# EAGLE library part LEPTON (library sjg-flir)
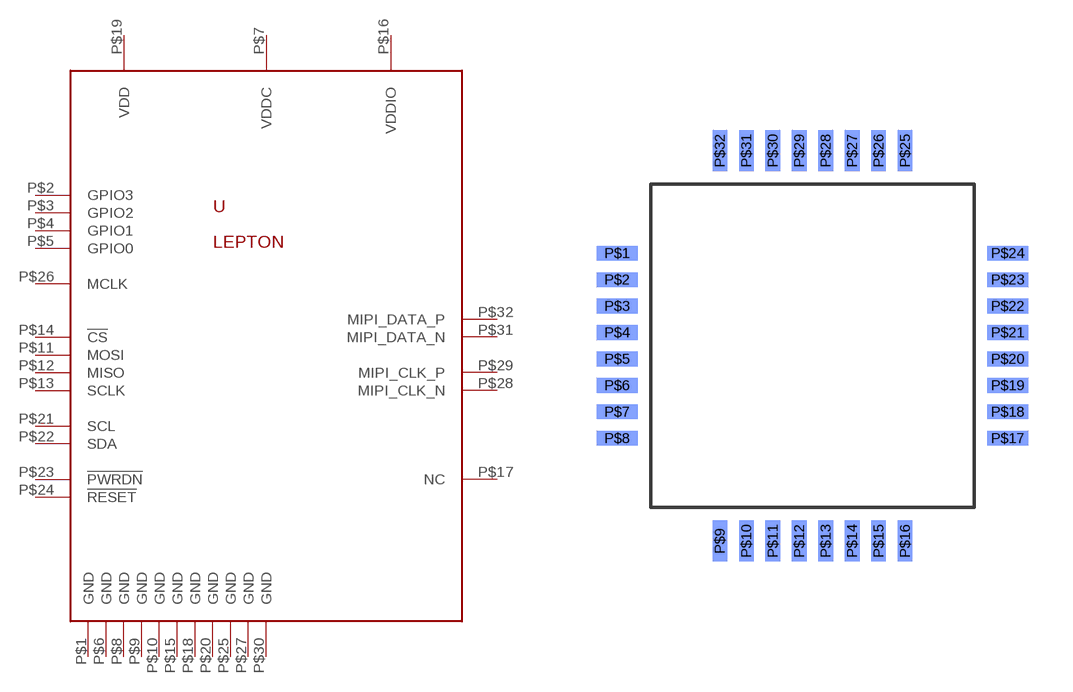
[diagram p0: symbol with the pads of 105028-2011; footprint 105028-2011]

Designator prefix -

## LEPTON  [105028-2011]
P$1  GND
P$2  GPIO3
P$3  GPIO2
P$4  GPIO1
P$5  GPIO0
P$6  GND
P$7  VDDC
P$8  GND
P$9  GND
P$10  GND
P$11  MOSI
P$12  MISO
P$13  SCLK
P$14  !CS!
P$15  GND
P$16  VDDIO
P$17  NC
P$18  GND
P$19  VDD
P$20  GND
P$21  SCL
P$22  SDA
P$23  !PWRDN!
P$24  !RESET!
P$25  GND
P$26  MCLK
P$27  GND
P$28  MIPI_CLK_N
P$29  MIPI_CLK_P
P$30  GND
P$31  MIPI_DATA_N
P$32  MIPI_DATA_P

## Footprint 105028-2011 (pad centres in mm)
Lepton 2 or Lepton 3 camera module socket Molex part # 105028-2011
smd 1.4 x 0.5 bottom: P$1 -6.644,3.15; P$2 -6.644,2.25; P$3 -6.644,1.35; P$4 -6.644,0.45; P$5 -6.644,-0.45; P$6 -6.644,-1.35; P$7 -6.644,-2.25; P$8 -6.644,-3.15; P$17 6.644,-3.15; P$18 6.644,-2.25; P$19 6.644,-1.35; P$20 6.644,-0.45; P$21 6.644,0.45; P$22 6.644,1.35; P$23 6.644,2.25; P$24 6.644,3.15
smd 0.5 x 1.4 bottom: P$9 -3.15,-6.644; P$10 -2.25,-6.644; P$11 -1.35,-6.644; P$12 -0.45,-6.644; P$13 0.45,-6.644; P$14 1.35,-6.644; P$15 2.25,-6.644; P$16 3.15,-6.644; P$25 3.15,6.644; P$26 2.25,6.644; P$27 1.35,6.644; P$28 0.45,6.644; P$29 -0.45,6.644; P$30 -1.35,6.644; P$31 -2.25,6.644; P$32 -3.15,6.644